# Altium schematic symbol library ic-mux.SchLib: 2 symbols
Pins are listed as number, name and electrical type; pins without a type are passive.

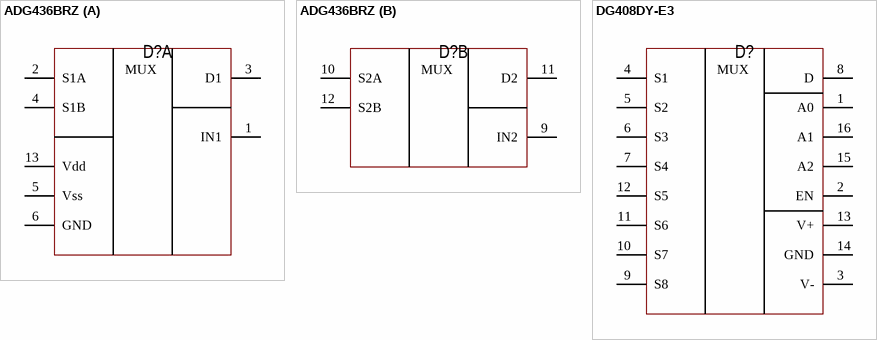
[diagram p0: symbols ADG436BRZ to DG408DY-E3]

## ADG436BRZ
designator D?
Аналоговый переключатель, SPDT; Manufacturer: ST Microelectronics; ValueManufacturerPartNumber: Аналоговый переключатель, SPDT, -, 5.5 MHz, ±2...20V, 0...+70°C, SO-16; Supply: ±2...20V; GainBandwidth: 5.5 MHz; HelpURL: https://www.digikey.com/product-detail/en/texas-instruments/OPA2337EA-3K/296-26252-1-ND/2254915; Package: SO-16; ComponentType: Аналоговый переключатель, SPDT; Temperature: 0...+70°C; OutputType: -
footprint 16-SO (pitch 1.27 mm)
part A pins: 1 IN1, 2 S1A, 3 D1, 4 S1B, 5 Vss, 6 GND, 7 NC hidden, 8 NC hidden, 13 Vdd, 14 NC hidden, 15 NC hidden, 16 NC hidden
part B pins: 9 IN2, 10 S2A, 11 D2, 12 S2B
part A text: MUX
part B text: MUX

## DG408DY-E3
designator D?
Аналоговый мультиплексор 1 x 8:1; Manufacturer: vishay; ValueManufacturerPartNumber: Аналоговый мультиплексор, DG408DY-E3, , +5...36V, ±5...20V, -40…+85, SO-16; Supply: +5...36V, ±5...20V; OutputType: DG408DY-E3; Package: SO-16; ComponentType: Аналоговый мультиплексор; Temperature: -40…+85
footprint 16-SO (pitch 1.27 mm)
pins: 1 A0, 2 EN, 3 V- (power), 4 S1, 5 S2, 6 S3, 7 S4, 8 D, 9 S8, 10 S7, 11 S6, 12 S5, 13 V+ (power), 14 GND (power), 15 A2, 16 A1
text: MUX